# Altium schematic symbol library DC-005.SchLib: 1 symbol
Pins are listed as number, name and electrical type; pins without a type are passive.

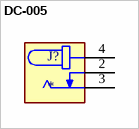
[diagram p0: symbol DC-005]

## DC-005
designator J?
DC Jack; MP: DC-005; Availability: Unavailable; Value: *; Package: None; Price: None
footprint NINIGI_DC-005
pins: 2 4, 3 5, 4 2